# Altium footprint library PCB-LIB.PcbLib: 18 footprints (part 1 of 2)
Each footprint in its own frame and in the unit in brackets; x right, y up, seen from the top. Pads: shape width x height; smd on the part's side, far side on the other; paste and mask are expansions set on the pad; w line width, h text height; cw(c..) or ccw(c..) is an arc to the next point about the centre after c.
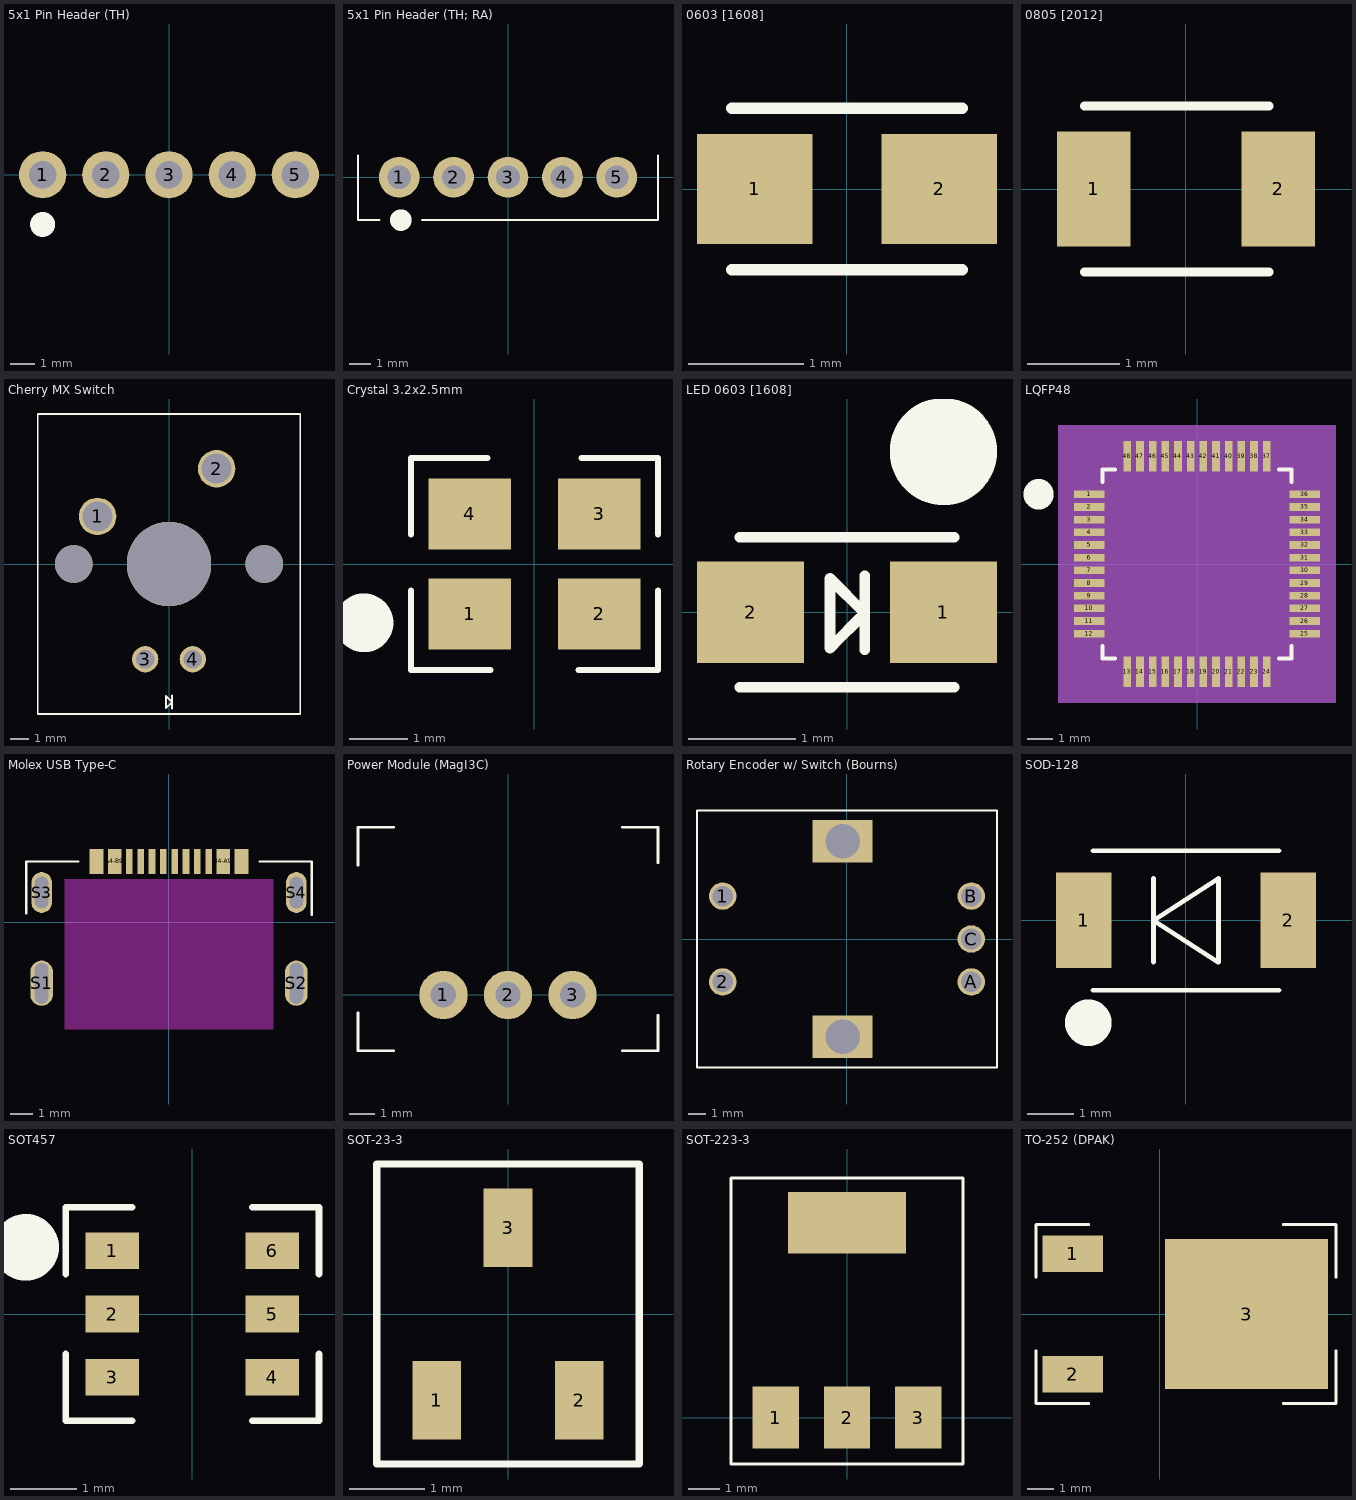
[diagram p0: the footprints below, top view; thin cyan lines are the x and y axes]

## 5x1 Pin Header (TH) [mm]
pads (5):
  round 1.9 hole 1.1: 1(-5.08,0) 2(-2.54,0) 3(0,0) 4(2.54,0) 5(5.08,0)
Top Overlay:
  circle w0.8: c-5.08,-2 r0.1
3D body "Pin Header 1x5 TH Pitch 2.54mm.stp": height 9.51, standoff -3.19, extent -6.35,-1.27 6.35,1.27

## 5x1 Pin Header (TH; RA) [mm] "Molex 22-05-3051"
pads (5):
  round 1.9 hole 1.1: 1(-5.08,0) 2(-2.54,0) 3(0,0) 4(2.54,0) 5(5.08,0)
Top Overlay:
  circle w0.8: c-5,-2 r0.1
  lines w0.1: -7,1 -7,-2 -6,-2 ; -4,-2 7,-2 7,1
3D body "022053051.stp": height 6.36, standoff -3.57, extent -6.274,-0.336 6.274,12.593

## 0603 [1608] [mm]
pads (2):
  rect 1x0.95 smd: 1(-0.8,0) 2(0.8,0)
Top Overlay:
  lines w0.1: -1,-0.7 1,-0.7 ; -1,0.7 1,0.7
3D body "ferrite_bead_0603.STEP": height 0.81, standoff 0.01, extent -0.8,-0.4 0.8,0.4

## 0805 [2012] [mm]
pads (2):
  rect 0.8x1.25 smd: 1(-1,0) 2(1,0)
Top Overlay:
  lines w0.1: -1.1,-0.9 0.9,-0.9 ; -1.1,0.9 0.9,0.9
3D body "ferrite_bead_0805.STEP": height 0.91, standoff 0.01, extent -1,-0.6 1,0.6

## Cherry MX Switch [mm]
pads (7):
  round 2 hole 1.6 mask+0.102: 1(-3.81,2.54) 2(2.54,5.08)
  round 1.4 hole 1 mask+0.102: 3(-1.27,-5.08) 4(1.27,-5.08)
  round 2 hole 2 mask+0.102: ""(-5.08,0) ""(5.08,0)
  round 4.5 hole 4.5 mask+0.102: ""(0,0)
Top Overlay:
  lines w0.1: 0.162,-7.703 0.162,-7.013 ; -7,-8 7,-8 7,8 -7,8 -7,-8 ; -0.163,-7.688 -0.163,-7.038 0.162,-7.363 0.081,-7.444 -0.081,-7.606 -0.163,-7.688
3D body "switch.step": height 14.75, standoff -2.94, extent -7.82,-8.129 7.82,8.201
3D body "LED 3mm GREEN.STEP": height 11, standoff -19.5, extent -1.6,-6.679 1.6,-3.481

## Crystal 3.2x2.5mm [mm]
pads (4):
  rect 1.4x1.2 smd: 1(-1.1,-0.85) 2(1.1,-0.85) 3(1.1,0.85) 4(-1.1,0.85)
Top Overlay:
  circle w0.8: c-2.9,-1 r0.1
  lines w0.1: -2.1,-0.45 -2.1,-1.8 -0.75,-1.8 ; -2.1,0.5 -2.1,1.8 -0.8,1.8 ; 0.75,-1.8 2.1,-1.8 2.1,-0.45 ; 0.8,1.8 2.1,1.8 2.1,0.5
3D body "NX3225SA v2.step": height 0.56, standoff 0.01, extent -1.6,-1.25 1.6,1.25

## LED 0603 [1608] [mm]
pads (2):
  rect 1x0.95 smd: 1(0.9,0) 2(-0.9,0)
Top Overlay:
  circle w0.8: c0.9,1.5 r0.1
  lines w0.1: -1,-0.7 1,-0.7 ; -1,0.7 1,0.7 ; 0.166,-0.35 0.166,0.341 ; -0.159,-0.334 -0.078,-0.253 0.084,-0.091 0.166,-0.009 -0.159,0.316 -0.159,-0.334
3D body "WL-SMCW SMT LED WURTH ELEKTRONIK 0603.step": height 0.7, standoff 0, extent -0.8,-0.35 0.8,0.35

## LQFP48 [mm]
pads (48):
  rect 1.194x0.305 smd paste+0 mask+0: 1(-4.25,2.75) 2(-4.25,2.25) 3(-4.25,1.75) 4(-4.25,1.25) 5(-4.25,0.75) 6(-4.25,0.25) 7(-4.25,-0.25) 8(-4.25,-0.75) 9(-4.25,-1.25) 10(-4.25,-1.75) 11(-4.25,-2.25) 12(-4.25,-2.75) 25(4.25,-2.75) 26(4.25,-2.25) 27(4.25,-1.75) 28(4.25,-1.25) 29(4.25,-0.75) 30(4.25,-0.25) 31(4.25,0.25) 32(4.25,0.75) 33(4.25,1.25) 34(4.25,1.75) 35(4.25,2.25) 36(4.25,2.75)
  rect 0.305x1.194 smd paste+0 mask+0: 13(-2.75,-4.25) 14(-2.25,-4.25) 15(-1.75,-4.25) 16(-1.25,-4.25) 17(-0.75,-4.25) 18(-0.25,-4.25) 19(0.25,-4.25) 20(0.75,-4.25) 21(1.25,-4.25) 22(1.75,-4.25) 23(2.25,-4.25) 24(2.75,-4.25) 37(2.75,4.25) 38(2.25,4.25) 39(1.75,4.25) 40(1.25,4.25) 41(0.75,4.25) 42(0.25,4.25) 43(-0.25,4.25) 44(-0.75,4.25) 45(-1.25,4.25) 46(-1.75,4.25) 47(-2.25,4.25) 48(-2.75,4.25)
Top Overlay:
  circle w1: c-6.25,2.75 r0.1
  lines w0.152: -3.721,-3.235 -3.721,-3.721 -3.235,-3.721 ; -3.721,3.235 -3.721,3.721 -3.235,3.721 ; 3.235,-3.721 3.721,-3.721 3.721,-3.235 ; 3.235,3.721 3.721,3.721 3.721,3.235
Mechanical 5:
  region: 5.482,-5.482 -5.482,-5.482 -5.482,5.482 5.482,5.482
Mechanical 13:
  circle w0: c-3.018,2.75 r0.076
  lines w0.025: -3.594,2.324 -2.324,3.594 ; -3.594,-3.594 -3.594,3.594 3.594,3.594 3.594,-3.594 -3.594,-3.594
Mechanical 15:
  region: -3.258,-3.848 -3.848,-3.848 -3.848,-3.258 -5.101,-3.258 -5.101,3.258 -3.848,3.258 -3.848,3.848 -3.258,3.848 -3.258,5.101 3.258,5.101 3.258,3.848 3.848,3.848 3.848,3.258 5.101,3.258 5.101,-3.258 3.848,-3.258 3.848,-3.848 3.258,-3.848 3.258,-5.101 -3.258,-5.101
  lines w0.152: -5.101,-3.258 -5.101,3.258 -3.848,3.258 -3.848,3.848 -3.258,3.848 -3.258,5.101 3.258,5.101 3.258,3.848 3.848,3.848 3.848,3.258 5.101,3.258 5.101,-3.258 3.848,-3.258 3.848,-3.848 3.258,-3.848 3.258,-5.101 -3.258,-5.101 -3.258,-3.848 -3.848,-3.848 -3.848,-3.258 -5.101,-3.258
3D body "LQFP48-7x7mm.step": height 1.6, standoff 0, extent -4.497,-4.497 4.497,4.497

## Molex USB Type-C [mm] "Molex 216990-0003"
pads (16):
  rect 0.6x1.1 smd: A1-B12(-3.2,2.688) A4-B9(-2.4,2.688) B1-A12(3.2,2.688) B4-A9(2.4,2.688)
  rect 0.3x1.1 smd: A5(-1.25,2.688) A6(-0.25,2.688) A7(0.25,2.688) A8(1.25,2.688) B5(1.75,2.688) B6(0.75,2.688) B7(-0.75,2.688) B8(-1.75,2.688)
  oval 1x2 hole 0.6 slot 1.8 at 90 deg mask+0: S1(-5.62,-2.687) S2(5.62,-2.687)
  oval 0.9x1.8 hole 0.6 slot 1.4 at 90 deg mask+0: S3(-5.62,1.313) S4(5.62,1.313)
Top Overlay:
  lines w0.1: -6.3,0.387 -6.3,2.688 -4,2.688 ; 4,2.688 6.3,2.688 ; 6.3,0.337 6.3,2.638
Keep-Out Layer:
  board cut-out: -4.6,1.9 -4.6,-4.713 4.6,-4.713 4.6,1.9
3D body "2169900003.stp": height 2.17, standoff -1.01, extent -5.77,-4.713 5.77,2.488

## Power Module (MagI3C) [mm]
pads (3):
  round 1.9 hole 1: 1(-2.54,0) 2(0,0) 3(2.54,0)
Top Overlay:
  lines w0.1: -5.9,-0.7 -5.9,-2.2 -4.5,-2.2 ; -5.9,5.1 -5.9,6.6 -5.55,6.6 -4.85,6.6 -4.5,6.6 ; 4.5,-2.2 5.9,-2.2 ; 4.5,6.6 5.9,6.6 5.9,5.2 ; 5.9,-0.8 5.9,-2.2 ; 5.9,-2.2 5.9,-2.2
3D body "173010342_STP_173010342_rev1.stp": height 10.41, standoff -4.09, extent -5.8,-2.05 5.8,6.45

## Rotary Encoder w/ Switch (Bourns) [mm] "PEC11H-4xxxF-Sxxxx"
pads (7):
  round 1.6 hole 1.2 mask+0.102: 1(-7.25,2.5) 2(-7.25,-2.5) A(7.25,-2.5) B(7.25,2.5) C(7.25,0)
  rect 3.5x2.5 hole 2 square mask+0.102: ""(-0.25,-5.7) ""(-0.25,5.7)
Top Overlay:
  lines w0.1: -8.75,-7.5 8.75,-7.5 8.75,7.5 -8.75,7.5 -8.75,-7.5
3D body "PEC11H-4015F-S0016.SLDPRT": height 19.31, standoff -3.68, extent -7.425,-6.562 7.525,6.562

## SOD-128 [mm]
pads (2):
  rect 1.2x2.05 smd: 1(-2.2,0) 2(2.2,0)
Top Overlay:
  circle w0.8: c-2.1,-2.2 r0.1
  lines w0.1: -2,-1.5 2,-1.5 ; -2,1.5 2,1.5 ; -0.7,-0.9 -0.7,0.9 ; -0.7,0 0.7,-0.9 0.7,0.9 -0.7,0
3D body "User Library-SOD-128 ST214 model.step": height 1.11, standoff 0, extent -2.6,-1.35 2.6,1.35

## SOT457 [mm]
pads (6):
  rect 0.8x0.55 smd: 1(-1.2,0.95) 2(-1.2,0) 3(-1.2,-0.95) 4(1.2,-0.95) 5(1.2,0) 6(1.2,0.95)
Top Overlay:
  circle w0.8: c-2.5,1 r0.1
  lines w0.1: -1.9,-0.6 -1.9,-1.6 -0.9,-1.6 ; -1.9,0.6 -1.9,1.6 -0.9,1.6 ; 0.9,-1.6 1.9,-1.6 1.9,-0.6 ; 0.9,1.6 1.9,1.6 1.9,0.6
3D body "SOT457.step": height 0.96, standoff -0.04, extent -1.375,-1.5 1.375,1.45

## SOT-23-3 [mm]
pads (3):
  rect 0.65x1.05 smd mask+0.102: 1(-0.95,-1.15) 2(0.95,-1.15) 3(0,1.15)
Top Overlay:
  lines w0.1: -1.75,-2 1.75,-2 1.75,2 -1.75,2 -1.75,-2
3D body "SOT23-3.stp": height 1.2, standoff 0.02, extent -1.5,-1.418 1.5,1.418

## SOT-223-3 [mm]
pads (4):
  rect 1.5x2 smd: 1(-2.3,0) 2(0,0) 3(2.3,0)
  rect 3.8x2 smd: ""(0,6.3)
Top Overlay:
  lines w0.1: -3.75,-1.5 3.75,-1.5 3.75,7.75 -3.75,7.75 -3.75,-1.5
3D body "SOT223-3.step": height 1.6, standoff 0, extent -3.211,-0.274 3.289,6.8

## TO-252 (DPAK) [mm]
pads (3):
  rect 2.3x1.4 smd: 1(-3.3,2.29) 2(-3.3,-2.29)
  rect 6.2x5.7 smd: 3(3.3,0)
Top Overlay:
  lines w0.1: -4.7,-1.4 -4.7,-3.4 -2.7,-3.4 ; -4.7,1.4 -4.7,3.4 -2.7,3.4 ; 4.7,-3.4 6.7,-3.4 6.7,-1.4 ; 4.7,3.4 6.7,3.4 6.7,1.4
3D body "TO252 Gehäuse.step": height 2.3, standoff -0.05, extent -3.3,-3.25 5.4,3.25